# Altium footprint library TO-263-3.PcbLib: 1 footprints
Each footprint in its own frame and in the unit in brackets; x right, y up, seen from the top. Pads: shape width x height; smd on the part's side, far side on the other; paste and mask are expansions set on the pad; w line width, h text height; cw(c..) or ccw(c..) is an arc to the next point about the centre after c.
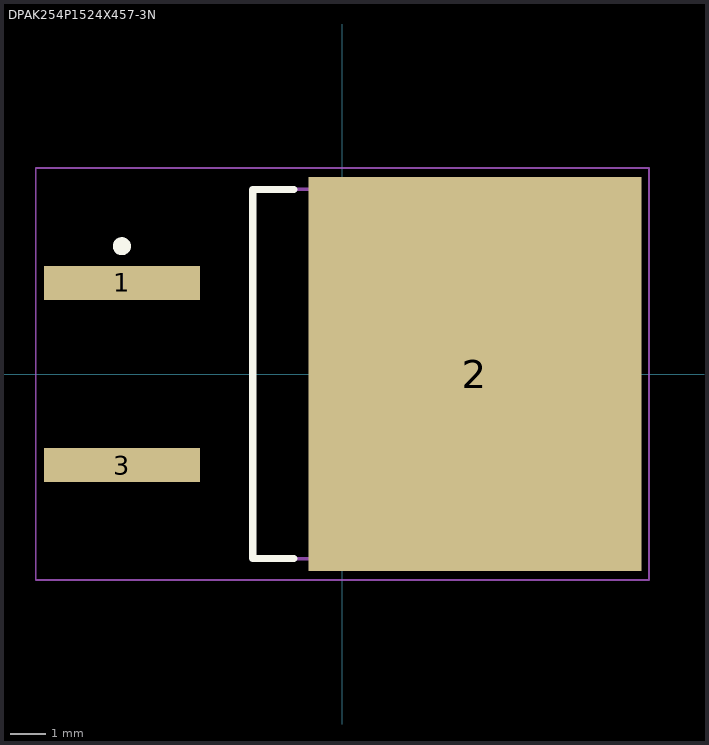
[diagram p0: the footprint, top view; thin cyan lines are the x and y axes]

## DPAK254P1524X457-3N [mm] "D2-PAK, 3-Pads, Body 7.82x8.52mm (max), IPC Medium Density"
height 4.57
pads (3):
  rect 4.35x0.95 smd: 1(-6.15,2.54) 3(-6.15,-2.54)
  rect 9.3x11 smd: 2(3.7,0)
Top Overlay:
  circle w0.25: c-6.15,3.565 r0.125
  lines w0.2: -1.35,-5.15 -2.5,-5.15 -2.5,5.15 -1.35,5.15
Mechanical 13:
  lines w0.1: -2.5,-5.15 -2.5,5.15 6.95,5.15 6.95,-5.15 -2.5,-5.15
Mechanical 15:
  lines w0.05: -8.55,-5.75 -8.55,5.75 8.55,5.75 8.55,-5.75 -8.55,-5.75
  lines w0.1: -0.5,0 0.5,0 ; 0,-0.5 0,0.5
3D body: height 4.57, standoff 0, extent -2.5,-5.15 6.95,5.15